# Altium footprint library NIM_to_LVCMOS_PcbLib.PcbLib: 27 footprints (part 1 of 2)
Each footprint in its own frame and in the unit in brackets; x right, y up, seen from the top. Pads: shape width x height; smd on the part's side, far side on the other; paste and mask are expansions set on the pad; w line width, h text height; cw(c..) or ccw(c..) is an arc to the next point about the centre after c.
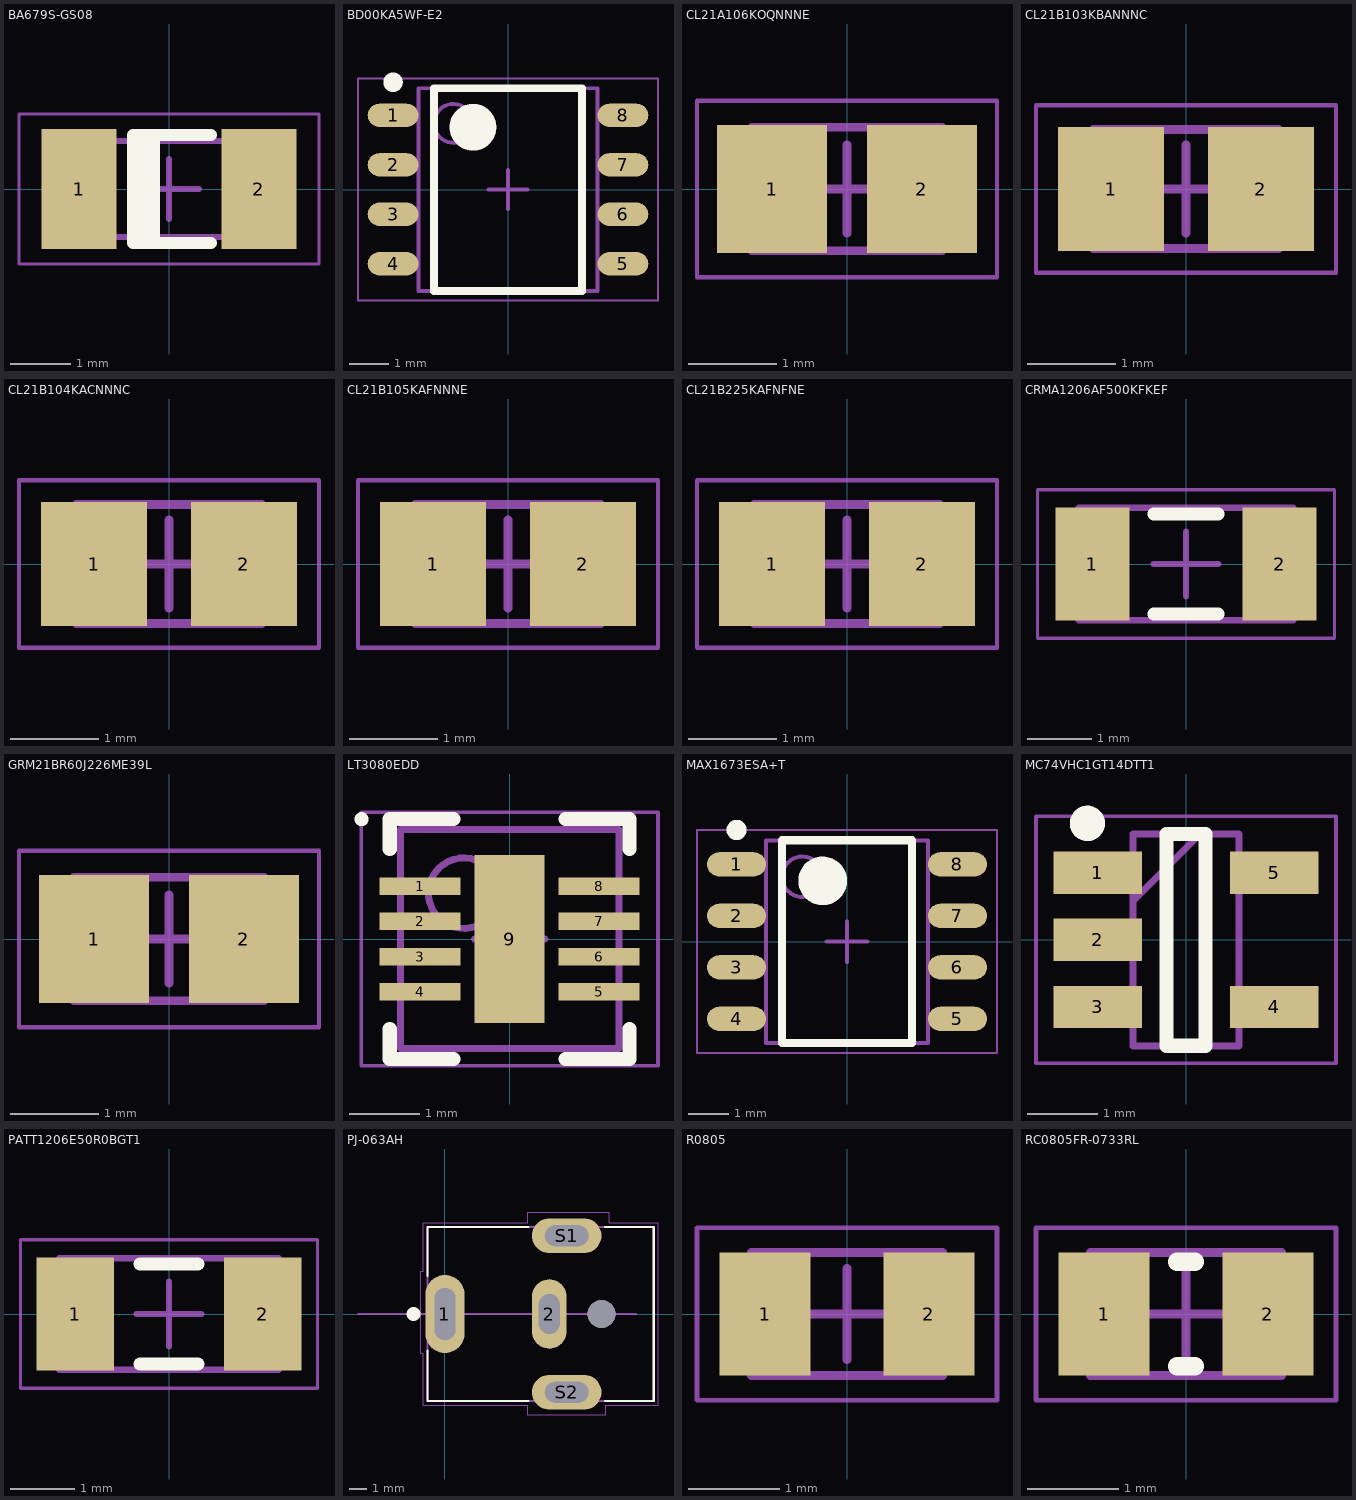
[diagram p0: the footprints below, top view; thin cyan lines are the x and y axes]

## BA679S-GS08 [mm] "MELF Diode, 2-Leads, Body 3.50x1.50mm, IPC Medium Density"
height 1.6
pads (2):
  rect 1.25x2 smd: 1(-1.5,0) 2(1.5,0)
Top Overlay:
  rectangle: -0.7,-0.9 -0.15,0.9
  lines w0.2: -0.6,-0.9 0.7,-0.9 ; -0.6,0.9 0.7,0.9
Mechanical 13:
  lines w0.1: -1.85,-0.8 1.85,-0.8 1.85,0.8 -1.85,0.8 -1.85,-0.8
Mechanical 15:
  lines w0.05: -2.5,-1.25 2.5,-1.25 2.5,1.25 -2.5,1.25 -2.5,-1.25
  lines w0.1: -0.5,0 0.5,0 ; 0,-0.5 0,0.5
3D body "BA679S-GS08.step": height 1.5, standoff 0, extent -1.75,-0.745 1.75,0.745

## BD00KA5WF-E2 [mm] "TSOP, 8-Leads, Body 5.00x4.40mm, Pitch 1.27mm, IPC Medium Density"
height 1.6
pads (8):
  oval 1.3x0.6 smd: 1(-2.95,1.905) 2(-2.95,0.635) 3(-2.95,-0.635) 4(-2.95,-1.905) 5(2.95,-1.905) 6(2.95,-0.635) 7(2.95,0.635) 8(2.95,1.905)
Top Overlay:
  circle w0.25: c-2.95,2.755 r0.125
  circle w0.6: c-0.9,1.6 r0.3
  lines w0.2: -1.9,-2.6 -1.9,2.6 1.9,2.6 1.9,-2.6 -1.9,-2.6
Mechanical 13:
  circle w0.1: c-1.4,1.7 r0.5
  lines w0.1: -2.3,-2.6 -2.3,2.6 2.3,2.6 2.3,-2.6 -2.3,-2.6
Mechanical 15:
  lines w0.05: -3.85,-2.85 -3.85,2.85 3.85,2.85 3.85,-2.85 -3.85,-2.85
  lines w0.1: -0.5,0 0.5,0 ; 0,-0.5 0,0.5
3D body "BD00KA5WF-E2.step": height 1.6, standoff 0.02, extent -3.06,-2.6 3.06,2.6

## CL21A106KOQNNNE [mm] "10uF Chip Capacitor, 2-Leads, Body 2.00x1.25mm, IPC Medium Density"
height 1.4
pads (2):
  rect 1.25x1.45 smd: 1(-0.85,0) 2(0.85,0)
Mechanical 13:
  lines w0.1: -1.075,-0.7 -1.075,0.7 1.075,0.7 1.075,-0.7 -1.075,-0.7
Mechanical 15:
  lines w0.05: -1.7,-1 -1.7,1 1.7,1 1.7,-1 -1.7,-1
  lines w0.1: -0.5,0 0.5,0 ; 0,-0.5 0,0.5
3D body "CL21A106KOQNNNE.step": height 1.4, standoff 0, extent -1.075,-0.7 1.075,0.7

## CL21B103KBANNNC [mm] "10nF Chip Capacitor, 2-Leads, Body 2.00x1.25mm, IPC Medium Density"
height 0.75
pads (2):
  rect 1.2x1.4 smd: 1(-0.85,0) 2(0.85,0)
Mechanical 13:
  lines w0.1: -1.05,-0.675 -1.05,0.675 1.05,0.675 1.05,-0.675 -1.05,-0.675
Mechanical 15:
  lines w0.05: -1.7,-0.95 -1.7,0.95 1.7,0.95 1.7,-0.95 -1.7,-0.95
  lines w0.1: -0.5,0 0.5,0 ; 0,-0.5 0,0.5
3D body "CL21B103KBANNNC.step": height 0.75, standoff 0, extent -1.05,-0.675 1.05,0.675

## CL21B104KACNNNC [mm] "0.1uF Chip Capacitor, 2-Leads, Body 2.00x1.25mm, IPC Medium Density"
height 0.95
pads (2):
  rect 1.2x1.4 smd: 1(-0.85,0) 2(0.85,0)
Mechanical 13:
  lines w0.1: -1.05,-0.675 1.05,-0.675 1.05,0.675 -1.05,0.675 -1.05,-0.675
Mechanical 15:
  lines w0.05: -1.7,-0.95 1.7,-0.95 1.7,0.95 -1.7,0.95 -1.7,-0.95
  lines w0.1: -0.5,0 0.5,0 ; 0,-0.5 0,0.5
3D body "CL21B104KACNNNC.step": height 0.95, standoff 0, extent -1.05,-0.675 1.05,0.675

## CL21B105KAFNNNE [mm] "1uF Chip Capacitor, 2-Leads, Body 2.00x1.25mm, IPC Medium Density"
height 1.35
pads (2):
  rect 1.2x1.4 smd: 1(-0.85,0) 2(0.85,0)
Mechanical 13:
  lines w0.1: -1.05,-0.675 1.05,-0.675 1.05,0.675 -1.05,0.675 -1.05,-0.675
Mechanical 15:
  lines w0.05: -1.7,-0.95 1.7,-0.95 1.7,0.95 -1.7,0.95 -1.7,-0.95
  lines w0.1: -0.5,0 0.5,0 ; 0,-0.5 0,0.5
3D body "CL21B105KAFNNNE.step": height 1.35, standoff 0, extent -1.05,-0.675 1.05,0.675

## CL21B225KAFNFNE [mm] "2.2uF Chip Capacitor, 2-Leads, Body 2.00x1.25mm, IPC Medium Density"
height 1.35
pads (2):
  rect 1.2x1.4 smd: 1(-0.85,0) 2(0.85,0)
Mechanical 13:
  lines w0.1: -1.05,-0.675 1.05,-0.675 1.05,0.675 -1.05,0.675 -1.05,-0.675
Mechanical 15:
  lines w0.05: -1.7,-0.95 1.7,-0.95 1.7,0.95 -1.7,0.95 -1.7,-0.95
  lines w0.1: -0.5,0 0.5,0 ; 0,-0.5 0,0.5
3D body "CL21B225KAFNFNE.step": height 1.35, standoff 0, extent -1.05,-0.675 1.05,0.675

## CRMA1206AF500KFKEF [mm] "500k Chip Resistor, 2-Leads, Body 3.18x1.60mm, IPC Medium Density"
height 0.74
pads (2):
  rect 1.15x1.75 smd: 1(-1.45,0) 2(1.45,0)
Top Overlay:
  lines w0.2: -0.5,-0.775 0.5,-0.775 ; -0.5,0.775 0.5,0.775
Mechanical 13:
  lines w0.1: -1.665,-0.875 1.665,-0.875 1.665,0.875 -1.665,0.875 -1.665,-0.875
Mechanical 15:
  lines w0.05: -2.3,-1.15 2.3,-1.15 2.3,1.15 -2.3,1.15 -2.3,-1.15
  lines w0.1: -0.5,0 0.5,0 ; 0,-0.5 0,0.5
3D body "CRMA1206AF500KFKEF.step": height 0.74, standoff 0, extent -1.665,-0.875 1.665,0.875

## GRM21BR60J226ME39L [mm] "22uF Chip Capacitor, 2-Leads, Body 2.00x1.25mm, IPC Medium Density"
height 1.4
pads (2):
  rect 1.25x1.45 smd: 1(-0.85,0) 2(0.85,0)
Mechanical 13:
  lines w0.1: -1.075,-0.7 1.075,-0.7 1.075,0.7 -1.075,0.7 -1.075,-0.7
Mechanical 15:
  lines w0.05: -1.7,-1 1.7,-1 1.7,1 -1.7,1 -1.7,-1
  lines w0.1: -0.5,0 0.5,0 ; 0,-0.5 0,0.5
3D body "GRM21BR60J226ME39L.step": height 1.4, standoff 0, extent -1.075,-0.7 1.075,0.7

## LT3080EDD [mm] "SON, 8-Leads, Body 3.00x3.00mm, Pitch 0.50mm, Thermal Pad 2.38x0.99mm, IPC Medium Density"
height 0.8
pads (9):
  rect 1.15x0.25 smd mask+0.051: 1(-1.27,0.75) 2(-1.27,0.25) 3(-1.27,-0.25) 4(-1.27,-0.75) 5(1.27,-0.75) 6(1.27,-0.25) 7(1.27,0.25) 8(1.27,0.75)
  rect 0.99x2.38 smd: 9(0,0)
Top Overlay:
  circle w0.1: c-2.1,1.7 r0.05
  lines w0.2: -1.7,-1.275 -1.7,-1.7 -0.795,-1.7 ; -1.7,1.275 -1.7,1.7 -0.795,1.7 ; 0.795,-1.7 1.7,-1.7 1.7,-1.275 ; 0.795,1.7 1.7,1.7 1.7,1.275
Mechanical 13:
  circle w0.1: c-0.65,0.65 r0.5
  lines w0.1: -1.55,-1.55 1.55,-1.55 1.55,1.55 -1.55,1.55 -1.55,-1.55
Mechanical 15:
  lines w0.05: -2.105,-1.8 2.105,-1.8 2.105,1.8 -2.105,1.8 -2.105,-1.8
  lines w0.1: -0.5,0 0.5,0 ; 0,-0.5 0,0.5
3D body "SON50P300X80_HS-9N.step": height 0.8, standoff 0, extent -1.551,-1.55 1.551,1.55

## MAX1673ESA+T [mm] "SOIC, 8-Leads, Body 4.90x3.90mm, Pitch 1.27mm, IPC Medium Density"
height 1.75
pads (8):
  oval 1.45x0.6 smd: 1(-2.725,1.905) 2(-2.725,0.635) 3(-2.725,-0.635) 4(-2.725,-1.905) 5(2.725,-1.905) 6(2.725,-0.635) 7(2.725,0.635) 8(2.725,1.905)
Top Overlay:
  circle w0.6: c-0.6,1.5 r0.3
  circle w0.25: c-2.725,2.755 r0.125
  lines w0.2: -1.6,-2.5 1.6,-2.5 1.6,2.5 -1.6,2.5 -1.6,-2.5
Mechanical 13:
  circle w0.1: c-1.1,1.6 r0.5
  lines w0.1: -2,-2.5 2,-2.5 2,2.5 -2,2.5 -2,-2.5
Mechanical 15:
  lines w0.05: -3.7,-2.75 3.7,-2.75 3.7,2.75 -3.7,2.75 -3.7,-2.75
  lines w0.1: -0.5,0 0.5,0 ; 0,-0.5 0,0.5
3D body "MAX1673ESA+T.step": height 1.75, standoff 0, extent -3,-2.5 3,2.5

## MC74VHC1GT14DTT1 [mm]
pads (5):
  rect 1.25x0.6 smd: 1(-1.25,0.95) 2(-1.25,0) 3(-1.25,-0.95) 4(1.25,-0.95) 5(1.25,0.95)
Top Overlay:
  circle w0.25: c-1.397,1.651 r0.125
  lines w0.2: -0.275,-1.5 -0.275,1.5 0.275,1.5 0.275,-1.5 -0.275,-1.5
Mechanical 13:
  lines w0.1: -0.75,0.55 0.2,1.5 ; -0.75,-1.5 -0.75,1.5 0.75,1.5 0.75,-1.5 -0.75,-1.5
Mechanical 15:
  lines w0.05: -2.125,-1.75 -2.125,1.75 2.125,1.75 2.125,-1.75 -2.125,-1.75
3D body "M74VHC1GT14DTT1G.stp": height 1.1, standoff 0, extent -1.375,-1.5 1.375,1.5

## PATT1206E50R0BGT1 [mm] "50 Chip Resistor, 2-Leads, Body 3.20x1.60mm, IPC Medium Density"
height 0.46
pads (2):
  rect 1.2x1.75 smd: 1(-1.45,0) 2(1.45,0)
Top Overlay:
  lines w0.2: -0.45,-0.775 0.45,-0.775 ; -0.45,0.775 0.45,0.775
Mechanical 13:
  lines w0.1: -1.7,-0.865 -1.7,0.865 1.7,0.865 1.7,-0.865 -1.7,-0.865
Mechanical 15:
  lines w0.05: -2.3,-1.15 -2.3,1.15 2.3,1.15 2.3,-1.15 -2.3,-1.15
  lines w0.1: -0.5,0 0.5,0 ; 0,-0.5 0,0.5
3D body "PATT1206E50R0BGT1.step": height 0.46, standoff 0, extent -1.7,-0.865 1.7,0.865

## PJ-063AH [mm]
pads (5):
  oval 2.25x4.5 hole 1.2 slot 3 at 90 deg: 1(0,0)
  oval 2x4 hole 1.2 slot 2.3 at 90 deg: 2(6,0)
  oval 4x2 hole 1.2 slot 2.5 at 0 deg: S1(7,4.5) S2(7,-4.5)
  round 1.6 hole 1.6 unplated: ""(9,0)
Top Overlay:
  circle w0.4: c-1.8,0 r0.2
  lines w0.127: -1,-2.1 -1,-5 4.8,-5 ; -1,2.2 -1,5 4.8,5 ; 9.2,-5 12,-5 12,5 9.2,5
Mechanical 13:
  lines w0.102: -5,0 11,0
  lines w0.127: -1,-5 -1,5 12,5 12,-5 -1,-5
Mechanical 15:
  lines w0.05: -1.4,-2.25 -1.4,2.45 -1.25,2.45 -1.25,5.25 4.75,5.25 4.75,5.85 9.45,5.85 9.45,5.25 12.25,5.25 12.25,-5.25 9.25,-5.25 9.25,-5.8 4.75,-5.8 4.75,-5.25 -1.25,-5.25 -1.25,-2.25 -1.4,-2.25
3D body "CUI_DEVICES_PJ-063AH.step": height 9.01, standoff -2.99, extent -1.039,-5.08 11.961,5.22

## R0805 [mm] "102k Chip Resistor, 2-Leads, Body 2.00x1.25mm, IPC Medium Density"
height 0.6
pads (2):
  rect 1x1.35 smd: 1(-0.9,0) 2(0.9,0)
Mechanical 13:
  lines w0.1: -1.05,-0.675 -1.05,0.675 1.05,0.675 1.05,-0.675 -1.05,-0.675
Mechanical 15:
  lines w0.05: -1.65,-0.95 -1.65,0.95 1.65,0.95 1.65,-0.95 -1.65,-0.95
  lines w0.1: -0.5,0 0.5,0 ; 0,-0.5 0,0.5
3D body "RC0805FR-07102KL.step": height 0.6, standoff 0, extent -1.05,-0.675 1.05,0.675

## RC0805FR-0733RL [mm] "33 Chip Resistor, 2-Leads, Body 2.00x1.25mm, IPC Medium Density"
height 0.6
pads (2):
  rect 1x1.35 smd: 1(-0.9,0) 2(0.9,0)
Top Overlay:
  lines w0.2: -0.1,-0.575 0.1,-0.575 ; -0.1,0.575 0.1,0.575
Mechanical 13:
  lines w0.1: -1.05,-0.675 -1.05,0.675 1.05,0.675 1.05,-0.675 -1.05,-0.675
Mechanical 15:
  lines w0.05: -1.65,-0.95 -1.65,0.95 1.65,0.95 1.65,-0.95 -1.65,-0.95
  lines w0.1: -0.5,0 0.5,0 ; 0,-0.5 0,0.5
3D body "RC0805FR-0733RL.step": height 0.6, standoff 0, extent -1.05,-0.675 1.05,0.675